# EAGLE library part PIC32MX795F512L-80I/PF (library PIC32MX795F512L-80I_PF)
Check prices <https://pricing.snapeda.com/parts/PIC32MX795F512L-80I/PF/Microchip/view-part?ref=eda>
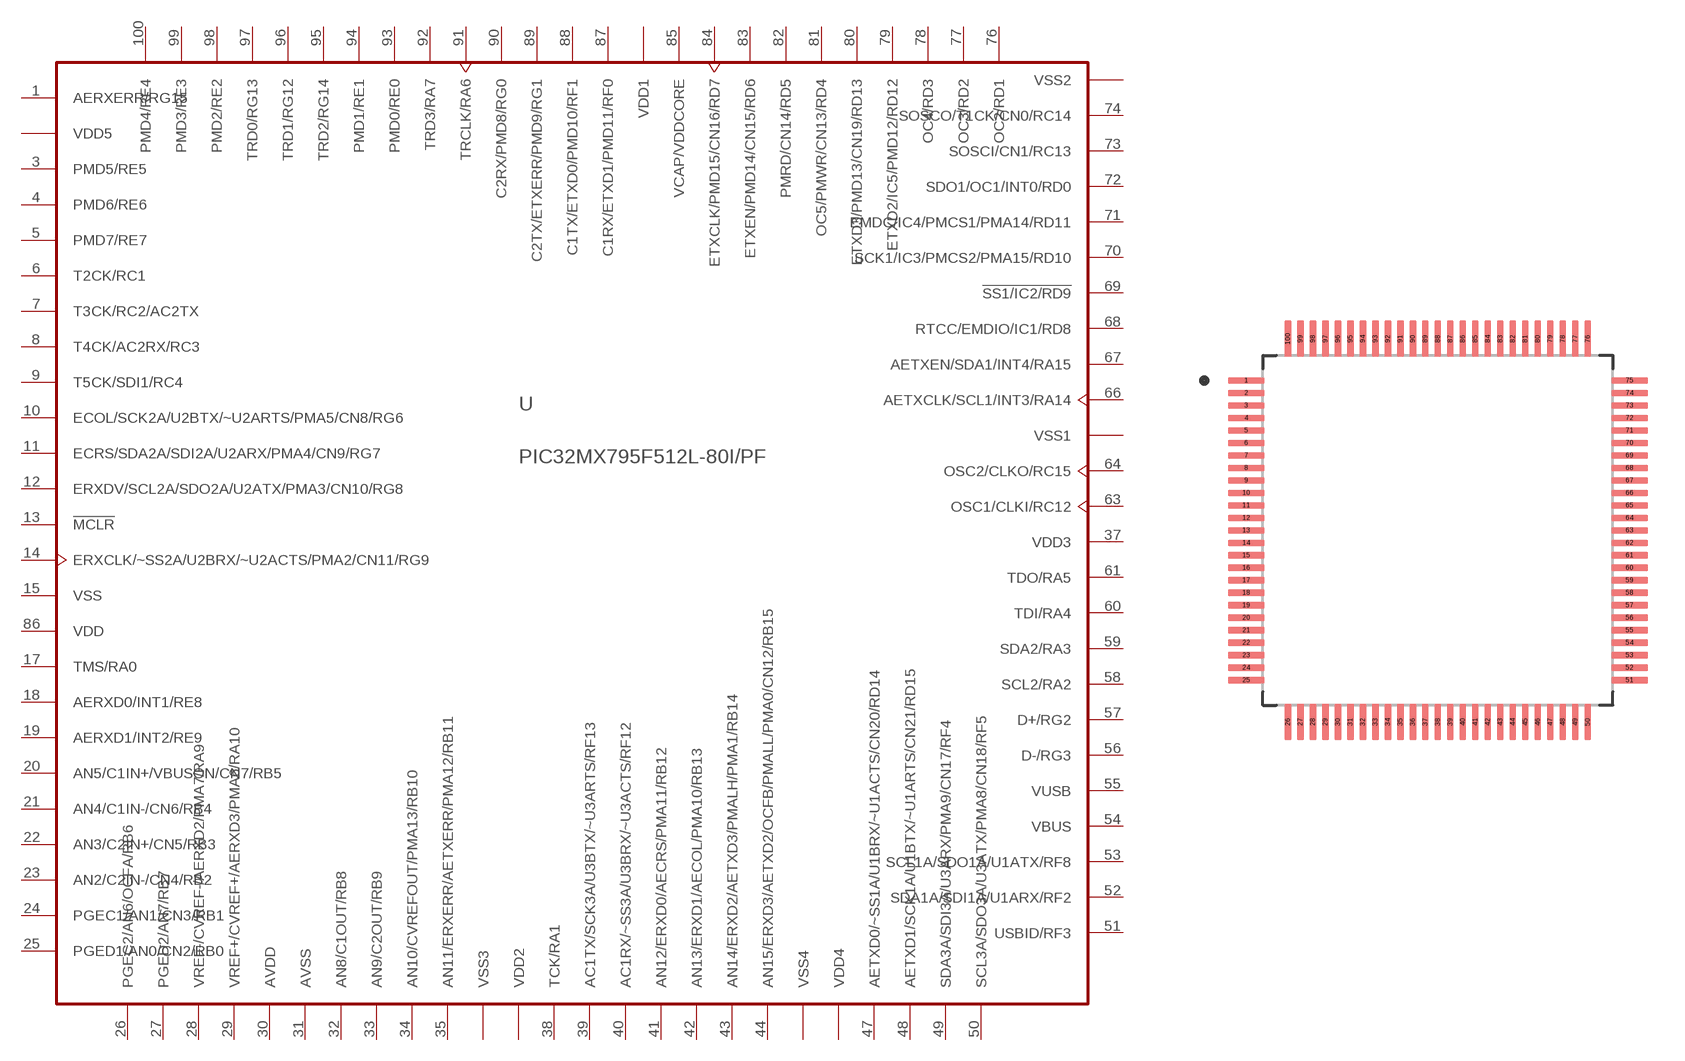
[diagram p0: symbol with the pads of QFP50P1600X1600X120-100N; footprint QFP50P1600X1600X120-100N]

Designator prefix -

## PIC32MX795F512L-80I/PF (AVAILABILITY: Good; DESCRIPTION: MIPS32® M4K™ PIC® 32MX Microcontroller IC 32-Bit 80MHz 512KB (512K x 8) FLASH 100-TQFP (14x14); MF: Microchip; MP: PIC32MX795F512L-80I/PF; PACKAGE: TQFP-100 Microchip; PRICE: None; PURCHASE-URL: https://pricing.snapeda.com/search/part/PIC32MX795F512L-80I/PF/?ref=eda)  [QFP50P1600X1600X120-100N]
1  AERXERR/RG15
2  VDD5  pwr
3  PMD5/RE5
4  PMD6/RE6
5  PMD7/RE7
6  T2CK/RC1
7  T3CK/RC2/AC2TX
8  T4CK/AC2RX/RC3
9  T5CK/SDI1/RC4
10  ECOL/SCK2A/U2BTX/~U2ARTS/PMA5/CN8/RG6
11  ECRS/SDA2A/SDI2A/U2ARX/PMA4/CN9/RG7
12  ERXDV/SCL2A/SDO2A/U2ATX/PMA3/CN10/RG8
13  !MCLR  in
14  ERXCLK/~SS2A/U2BRX/~U2ACTS/PMA2/CN11/RG9  in
15  VSS  pwr
16  VDD4  pwr
17  TMS/RA0
18  AERXD0/INT1/RE8  in
19  AERXD1/INT2/RE9  in
20  AN5/C1IN+/VBUSON/CN7/RB5  in
21  AN4/C1IN-/CN6/RB4  in
22  AN3/C2IN+/CN5/RB3  in
23  AN2/C2IN-/CN4/RB2  in
24  PGEC1/AN1/CN3/RB1
25  PGED1/AN0/CN2/RB0
26  PGEC2/AN6/OCFA/RB6
27  PGED2/AN7/RB7
28  VREF-/CVREF-/AERXD2/PMA7/RA9
29  VREF+/CVREF+/AERXD3/PMA6/RA10
30  AVDD  pwr
31  AVSS  pwr
32  AN8/C1OUT/RB8
33  AN9/C2OUT/RB9
34  AN10/CVREFOUT/PMA13/RB10
35  AN11/ERXERR/AETXERR/PMA12/RB11
36  VSS4  pwr
37  VDD3  pwr
38  TCK/RA1
39  AC1TX/SCK3A/U3BTX/~U3ARTS/RF13
40  AC1RX/~SS3A/U3BRX/~U3ACTS/RF12
41  AN12/ERXD0/AECRS/PMA11/RB12
42  AN13/ERXD1/AECOL/PMA10/RB13
43  AN14/ERXD2/AETXD3/PMALH/PMA1/RB14
44  AN15/ERXD3/AETXD2/OCFB/PMALL/PMA0/CN12/RB15
45  VSS3  pwr
46  VDD2  pwr
47  AETXD0/~SS1A/U1BRX/~U1ACTS/CN20/RD14
48  AETXD1/SCK1A/U1BTX/~U1ARTS/CN21/RD15
49  SDA3A/SDI3A/U3ARX/PMA9/CN17/RF4
50  SCL3A/SDO3A/U3ATX/PMA8/CN18/RF5  in
51  USBID/RF3
52  SDA1A/SDI1A/U1ARX/RF2
53  SCL1A/SDO1A/U1ATX/RF8  in
54  VBUS  in
55  VUSB  pwr
56  D-/RG3
57  D+/RG2
58  SCL2/RA2  in
59  SDA2/RA3
60  TDI/RA4
61  TDO/RA5
62  VDD1  pwr
63  OSC1/CLKI/RC12
64  OSC2/CLKO/RC15
65  VSS2  pwr
66  AETXCLK/SCL1/INT3/RA14  in
67  AETXEN/SDA1/INT4/RA15  in
68  RTCC/EMDIO/IC1/RD8
69  !SS1/IC2/RD9
70  SCK1/IC3/PMCS2/PMA15/RD10
71  EMDC/IC4/PMCS1/PMA14/RD11
72  SDO1/OC1/INT0/RD0  in
73  SOSCI/CN1/RC13
74  SOSCO/T1CK/CN0/RC14
75  VSS1  pwr
76  OC2/RD1
77  OC3/RD2
78  OC4/RD3
79  ETXD2/IC5/PMD12/RD12
80  ETXD3/PMD13/CN19/RD13
81  OC5/PMWR/CN13/RD4
82  PMRD/CN14/RD5
83  ETXEN/PMD14/CN15/RD6
84  ETXCLK/PMD15/CN16/RD7  in
85  VCAP/VDDCORE  pwr
86  VDD  pwr
87  C1RX/ETXD1/PMD11/RF0
88  C1TX/ETXD0/PMD10/RF1
89  C2TX/ETXERR/PMD9/RG1
90  C2RX/PMD8/RG0
91  TRCLK/RA6  in
92  TRD3/RA7
93  PMD0/RE0
94  PMD1/RE1
95  TRD2/RG14
96  TRD1/RG12
97  TRD0/RG13
98  PMD2/RE2
99  PMD3/RE3
100  PMD4/RE4

## Footprint QFP50P1600X1600X120-100N (pad centres in mm)
smd 1.47 x 0.28: 1 -7.67,6; 2 -7.67,5.5; 3 -7.67,5; 4 -7.67,4.5; 5 -7.67,4; 6 -7.67,3.5; 7 -7.67,3; 8 -7.67,2.5; 9 -7.67,2; 10 -7.67,1.5; 11 -7.67,1; 12 -7.67,0.5; 13 -7.67,0; 14 -7.67,-0.5; 15 -7.67,-1; 16 -7.67,-1.5; 17 -7.67,-2; 18 -7.67,-2.5; 19 -7.67,-3; 20 -7.67,-3.5; 21 -7.67,-4; 22 -7.67,-4.5; 23 -7.67,-5; 24 -7.67,-5.5; 25 -7.67,-6; 51 7.67,-6; 52 7.67,-5.5; 53 7.67,-5; 54 7.67,-4.5; 55 7.67,-4; 56 7.67,-3.5; 57 7.67,-3; 58 7.67,-2.5; 59 7.67,-2; 60 7.67,-1.5; 61 7.67,-1; 62 7.67,-0.5; 63 7.67,0; 64 7.67,0.5; 65 7.67,1; 66 7.67,1.5; 67 7.67,2; 68 7.67,2.5; 69 7.67,3; 70 7.67,3.5; 71 7.67,4; 72 7.67,4.5; 73 7.67,5; 74 7.67,5.5; 75 7.67,6
smd 0.28 x 1.47: 26 -6,-7.67; 27 -5.5,-7.67; 28 -5,-7.67; 29 -4.5,-7.67; 30 -4,-7.67; 31 -3.5,-7.67; 32 -3,-7.67; 33 -2.5,-7.67; 34 -2,-7.67; 35 -1.5,-7.67; 36 -1,-7.67; 37 -0.5,-7.67; 38 0,-7.67; 39 0.5,-7.67; 40 1,-7.67; 41 1.5,-7.67; 42 2,-7.67; 43 2.5,-7.67; 44 3,-7.67; 45 3.5,-7.67; 46 4,-7.67; 47 4.5,-7.67; 48 5,-7.67; 49 5.5,-7.67; 50 6,-7.67; 76 6,7.67; 77 5.5,7.67; 78 5,7.67; 79 4.5,7.67; 80 4,7.67; 81 3.5,7.67; 82 3,7.67; 83 2.5,7.67; 84 2,7.67; 85 1.5,7.67; 86 1,7.67; 87 0.5,7.67; 88 0,7.67; 89 -0.5,7.67; 90 -1,7.67; 91 -1.5,7.67; 92 -2,7.67; 93 -2.5,7.67; 94 -3,7.67; 95 -3.5,7.67; 96 -4,7.67; 97 -4.5,7.67; 98 -5,7.67; 99 -5.5,7.67; 100 -6,7.67